# Altium schematic symbol library ProjectMainLib.SchLib: 2 symbols
Pins are listed as number, name and electrical type; pins without a type are passive.

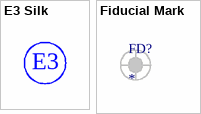
[diagram p0: symbols E3 Silk to Fiducial Mark]

## E3 Silk
designator ?
footprint E3 Silk Screen
text: E3

## Fiducial Mark
designator FD?  (no BOM)
Fiducial Mark; Manufacturer: Custom; Vendor: Custom; Manufacturer P/N: Fiducial Mark; Vendor P/N: Fiducial Mark
footprint Fiducial Mark